# Altium footprint library TE-D.PcbLib: 1 footprints
Each footprint in its own frame and in the unit in brackets; x right, y up, seen from the top. Pads: shape width x height; smd on the part's side, far side on the other; paste and mask are expansions set on the pad; w line width, h text height; cw(c..) or ccw(c..) is an arc to the next point about the centre after c.
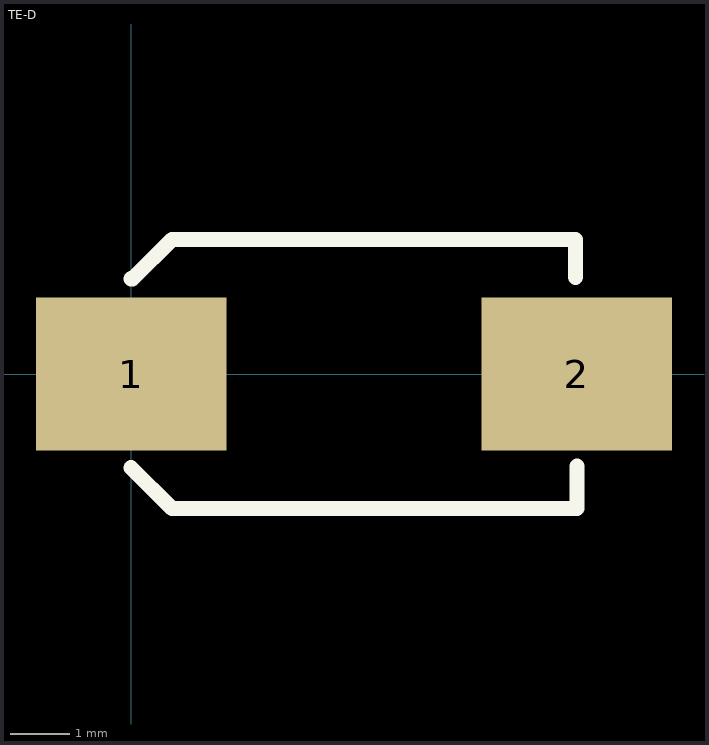
[diagram p0: the footprint, top view; thin cyan lines are the x and y axes]

## TE-D [mil]
pads (2):
  rect 126x101 smd: 1(0,0) 2(295,0)
TopOverlay:
  lines w10: 0,-62 27,-89 63,-89 232,-89 295,-89 295,-61 ; 0,63 1,63 27,89 63,89 232,89 294,89 294,64